# EAGLE library part MCP4728A1T-E_UN (library MCP4728A1T-E_UN)
Digital to Analog Converters - DAC Quad, 12-bit NV DAC with I2C interface Source: Datasheet <https://componentsearchengine.com/Datasheets/1/MCP4728A1T-E_UN.pdf>
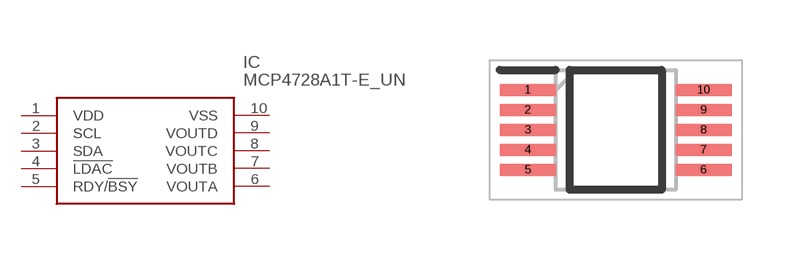
[diagram p0: symbol with the pads of SOP50P490X110-10N; footprint SOP50P490X110-10N]

Designator prefix IC

## MCP4728A1T-E_UN (Description: Digital to Analog Converters - DAC Quad, 12-bit NV DAC with I2C interface; Height: 1.1mm; Manufacturer_Name: Microchip; Manufacturer_Part_Number: MCP4728A1T-E/UN; Mouser_Part_Number: 579-MCP4728A1T-E/UN; Mouser_Price-Stock: https://www.mouser.com/Search/Refine.aspx?Keyword=579-MCP4728A1T-E%2FUN)  [SOP50P490X110-10N]
1  VDD
2  SCL
3  SDA
4  !LDAC
5  RDY/!BSY
6  VOUTA
7  VOUTB
8  VOUTC
9  VOUTD
10  VSS

## Footprint SOP50P490X110-10N (pad centres in mm)
MCP4728A1T-E/UN
smd 1.4 x 0.3: 1 -2.2,1; 2 -2.2,0.5; 3 -2.2,0; 4 -2.2,-0.5; 5 -2.2,-1; 6 2.2,-1; 7 2.2,-0.5; 8 2.2,0; 9 2.2,0.5; 10 2.2,1